# Altium footprint library ee_453_Schulz.PcbLib: 73 footprints (part 2 of 5)
Each footprint in its own frame and in the unit in brackets; x right, y up, seen from the top. Pads: shape width x height; smd on the part's side, far side on the other; paste and mask are expansions set on the pad; w line width, h text height; cw(c..) or ccw(c..) is an arc to the next point about the centre after c.
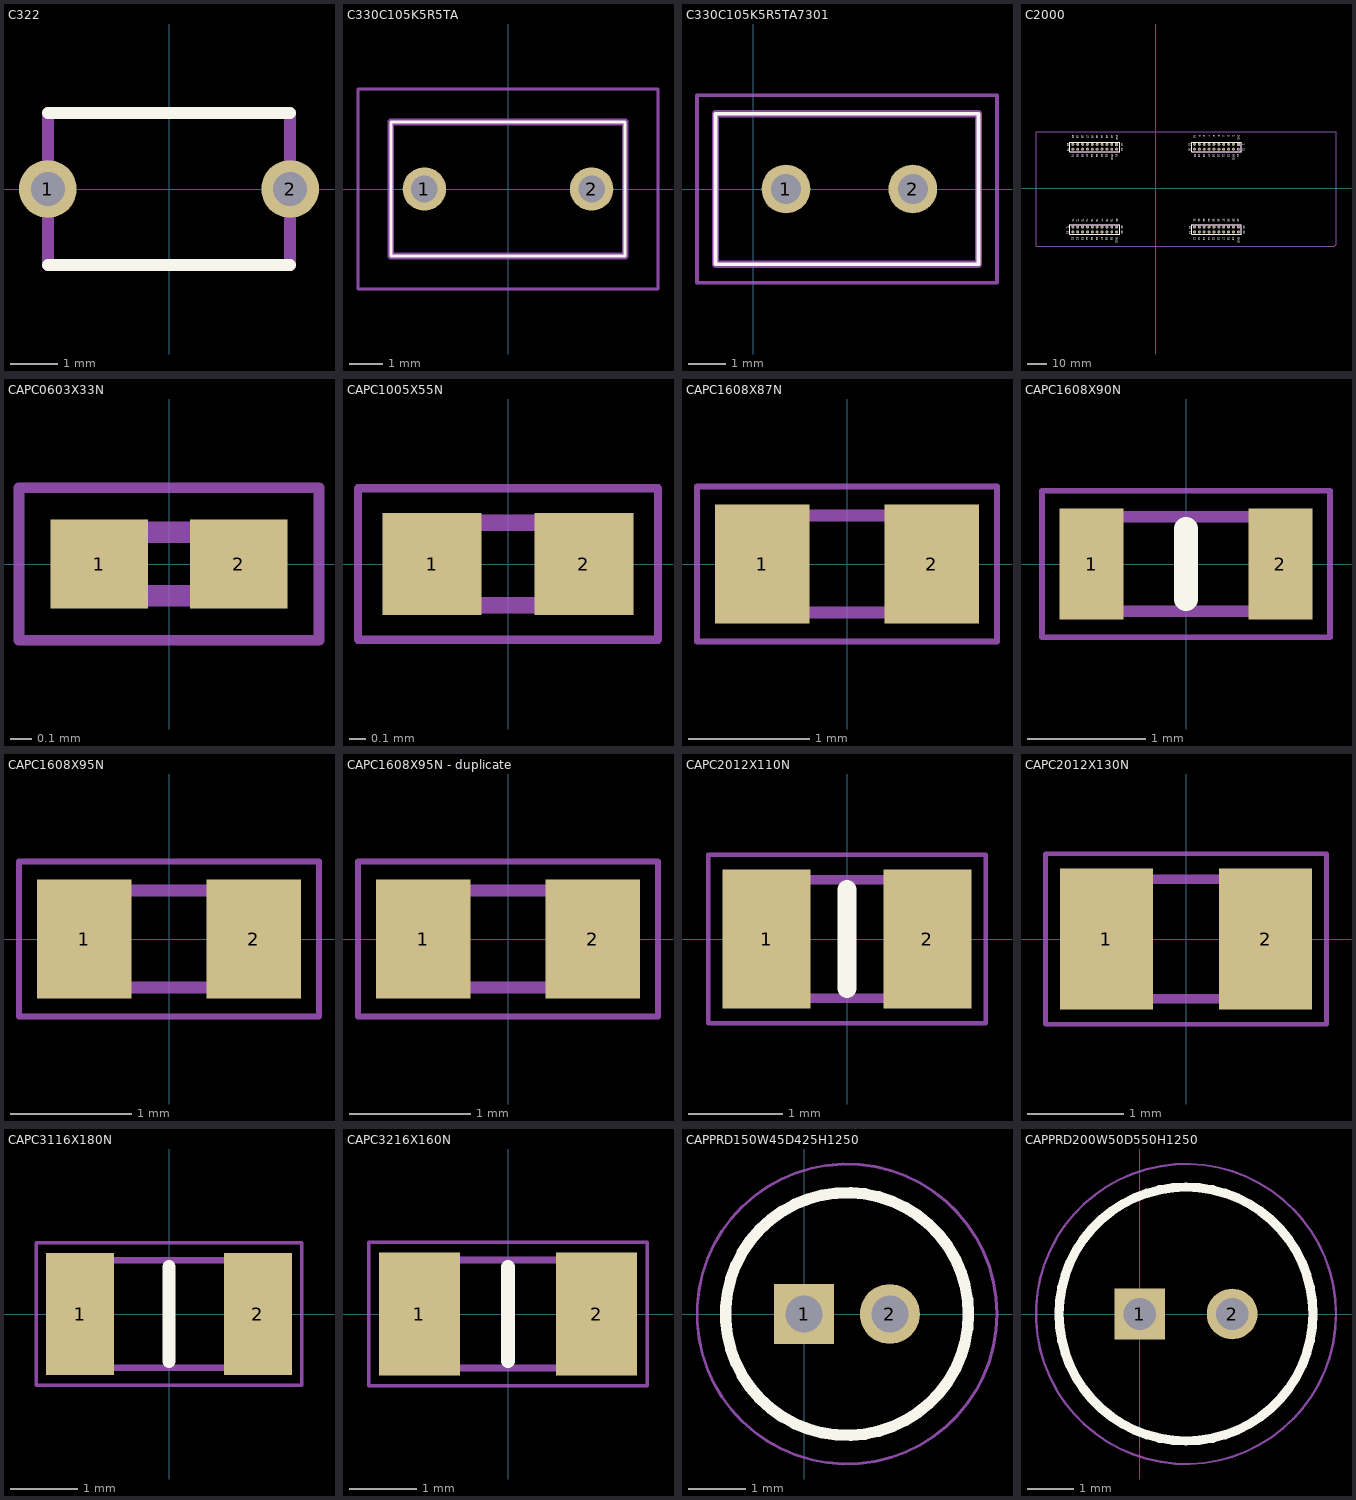
[diagram p1: the footprints below, top view; thin cyan lines are the x and y axes]

## C322 [mm]
pads (2):
  round 1.21 hole 0.71: 1(-2.54,0) 2(2.54,0)
Top Overlay:
  lines w0.254: -2.54,-1.59 2.54,-1.59 ; -2.54,1.59 2.54,1.59
Mechanical 13:
  lines w0.254: -2.54,-1.59 2.54,-1.59 2.54,1.59 -2.54,1.59 -2.54,-1.59
3D body "C322C104K5R5TA.stp": height 3.18, standoff 0, extent -0.695,-8.79 5.775,4.811

## C330C105K5R5TA [mm]
pads (2):
  round 1.316 hole 0.81: 1(-2.54,0) 2(2.54,0)
Top Overlay:
  lines w0.1: -3.555,-2.035 -3.555,2.035 3.555,2.035 3.555,-2.035 -3.555,-2.035
Mechanical 13:
  lines w0.2: -3.555,-2.035 -3.555,2.035 3.555,2.035 3.555,-2.035 -3.555,-2.035
Mechanical 15:
  lines w0.1: -4.555,-3.035 -4.555,3.035 4.555,3.035 4.555,-3.035 -4.555,-3.035
3D body "C330C105K5R5TA.stp": height 9.1, standoff -5, extent -3.555,-2.035 3.555,2.035

## C330C105K5R5TA7301 [mm]
pads (2):
  round 1.316 hole 0.81: 1(0.889,0) 2(4.318,0)
Top Overlay:
  lines w0.1: -1.015,-2.035 -1.015,2.035 6.095,2.035 6.095,-2.035 -1.015,-2.035
Mechanical 13:
  lines w0.2: -1.015,-2.035 -1.015,2.035 6.095,2.035 6.095,-2.035 -1.015,-2.035
Mechanical 15:
  lines w0.1: -1.515,-2.535 -1.515,2.535 6.595,2.535 6.595,-2.535 -1.515,-2.535
3D body "C330C105K5R5TA7301.stp": height 10.66, standoff -7, extent -1.015,-2.035 6.095,2.04

## C2000 [mm]
pads (80):
  rrect6% 1.55x1.55 hole 1.02: 1(43.18,22.86) 41(-20.32,22.86)
  round 1.55 hole 1.02: 2(40.64,22.86) 3(38.1,22.86) 4(35.56,22.86) 5(33.02,22.86) 6(30.48,22.86) 7(27.94,22.86) 8(25.4,22.86) 9(22.86,22.86) 10(20.32,22.86) 11(20.32,-22.86) 12(22.86,-22.86) 13(25.4,-22.86) 14(27.94,-22.86) 15(30.48,-22.86) 16(33.02,-22.86) 17(35.56,-22.86) 18(38.1,-22.86) 19(40.64,-22.86) 20(43.18,-22.86) 21(43.18,20.32) 22(40.64,20.32) 23(38.1,20.32) 24(35.56,20.32) 25(33.02,20.32) 26(30.48,20.32) 27(27.94,20.32) 28(25.4,20.32) 29(22.86,20.32) 30(20.32,20.32) 31(20.32,-20.32) 32(22.86,-20.32) 33(25.4,-20.32) 34(27.94,-20.32) 35(30.48,-20.32) 36(33.02,-20.32) 37(35.56,-20.32) 38(38.1,-20.32) 39(40.64,-20.32) 40(43.18,-20.32) 42(-22.86,22.86) 43(-25.4,22.86) 44(-27.94,22.86) 45(-30.48,22.86) 46(-33.02,22.86) 47(-35.56,22.86) 48(-38.1,22.86) 49(-40.64,22.86) 50(-43.18,22.86) 51(-43.18,-22.86) 52(-40.64,-22.86) 53(-38.1,-22.86) 54(-35.56,-22.86) 55(-33.02,-22.86) 56(-30.48,-22.86) 57(-27.94,-22.86) 58(-25.4,-22.86) 59(-22.86,-22.86) 60(-20.32,-22.86) 61(-20.32,20.32) 62(-22.86,20.32) 63(-25.4,20.32) 64(-27.94,20.32) 65(-30.48,20.32) 66(-33.02,20.32) 67(-35.56,20.32) 68(-38.1,20.32) 69(-40.64,20.32) 70(-43.18,20.32) 71(-43.18,-20.32) 72(-40.64,-20.32) 73(-38.1,-20.32) 74(-35.56,-20.32) 75(-33.02,-20.32) 76(-30.48,-20.32) 77(-27.94,-20.32) 78(-25.4,-20.32) 79(-22.86,-20.32) 80(-20.32,-20.32)
Top Overlay:
  lines w0.2: -44.704,-24.066 -44.704,-19.113 -18.796,-19.113 -18.796,-24.066 -44.704,-24.066 ; -44.704,19.113 -44.704,24.067 -18.796,24.067 -18.796,19.113 -44.704,19.113 ; 18.796,-24.066 18.796,-19.113 44.704,-19.113 44.704,-24.066 18.796,-24.066 ; 18.796,19.113 18.796,24.067 44.704,24.067 44.704,19.113 18.796,19.113
  text "78" at -25.815,-15.998 h0.76
  text "79" at -23.275,-15.998 h0.76
  text "39" at 40.259,-15.998 h0.76
  text "38" at 37.719,-15.998 h0.76
  text "27" at 27.432,17.566 h0.76
  text "19" at 40.132,-25.734 h0.76
  text "59" at -23.368,-25.734 h0.76
  text "11" at 19.812,-25.734 h0.76
  text "12" at 22.352,-25.734 h0.76
  text "13" at 24.892,-25.734 h0.76
  text "15" at 29.972,-25.734 h0.76
  text "16" at 32.512,-25.734 h0.76
  text "17" at 35.052,-25.734 h0.76
  text "18" at 37.592,-25.734 h0.76
  text "31" at 19.812,-15.998 h0.76
  text "32" at 22.352,-15.998 h0.76
  text "33" at 24.892,-15.998 h0.76
  text "34" at 27.432,-15.998 h0.76
  text "35" at 29.972,-15.998 h0.76
  text "36" at 32.512,-15.998 h0.76
  text "37" at 35.052,-15.998 h0.76
  text "14" at 27.432,-25.734 h0.76
  text "51" at -43.688,-25.734 h0.76
  text "52" at -41.148,-25.734 h0.76
  text "53" at -38.608,-25.734 h0.76
  text "55" at -33.528,-25.734 h0.76
  text "56" at -30.988,-25.734 h0.76
  text "57" at -28.448,-25.734 h0.76
  text "58" at -25.908,-25.734 h0.76
  text "80" at -20.608,-15.998 h0.76
  text "72" at -41.055,-15.998 h0.76
  text "73" at -38.515,-15.998 h0.76
  text "74" at -36.068,-15.998 h0.76
  text "75" at -33.528,-15.998 h0.76
  text "76" at -30.895,-15.998 h0.76
  text "77" at -28.355,-15.998 h0.76
  text "54" at -36.068,-25.734 h0.76
  text "67" at -36.068,17.566 h0.76
  text "42" at -23.241,27.558 h0.76
  text "43" at -25.781,27.558 h0.76
  text "44" at -28.321,27.558 h0.76
  text "45" at -30.861,27.558 h0.76
  text "46" at -33.401,27.558 h0.76
  text "47" at -35.941,27.558 h0.76
  text "48" at -38.481,27.558 h0.76
  text "49" at -41.021,27.558 h0.76
  text "50" at -43.561,27.558 h0.76
  text "63" at -25.908,17.566 h0.76
  text "64" at -28.448,17.566 h0.76
  text "65" at -30.988,17.566 h0.76
  text "66" at -33.528,17.566 h0.76
  text "68" at -38.608,17.566 h0.76
  text "69" at -41.148,17.566 h0.76
  text "70" at -43.688,17.566 h0.76
  text "30" at 20.066,17.566 h0.76
  text "29" at 22.352,17.566 h0.76
  text "28" at 24.892,17.566 h0.76
  text "26" at 29.972,17.566 h0.76
  text "25" at 32.512,17.566 h0.76
  text "24" at 35.052,17.566 h0.76
  text "23" at 37.592,17.566 h0.76
  text "10" at 19.939,27.558 h0.76
  text "9" at 22.479,27.558 h0.76
  text "8" at 25.019,27.558 h0.76
  text "7" at 27.559,27.558 h0.76
  text "6" at 30.099,27.558 h0.76
  text "5" at 32.639,27.558 h0.76
  text "4" at 35.179,27.558 h0.76
  text "3" at 37.719,27.558 h0.76
  text "2" at 40.259,27.558 h0.76
  text "41" at -17.78,23.495 h0.76
  text "61" at -17.78,20.828 h0.76
  text "50" at -45.974,23.419 h0.76
  text "70" at -45.974,20.955 h0.76
  text "60" at -17.78,-22.225 h0.76
  text "80" at -17.78,-19.685 h0.76
  text "71" at -43.434,-15.998 h0.76
  text "10" at 17.399,23.419 h0.76
  text "1" at 45.593,23.114 h0.76
  text "30" at 17.399,20.955 h0.76
  text "21" at 45.593,20.955 h0.76
  text "20" at 45.798,-22.225 h0.76
  text "11" at 17.526,-22.428 h0.76
  text "31" at 17.526,-19.812 h0.76
  text "40" at 45.798,-19.685 h0.76
  text "GND" at 42.799,-25.734 h0.76
  text "GND" at 40.296,17.566 h0.76
  text "5V" at 42.75,17.566 h0.76
  text "3V3" at 43.004,27.558 h0.76
  text "5V" at -20.75,17.566 h0.76
  text "GND" at -23.204,17.566 h0.76
  text "3V3" at -20.623,27.558 h0.76
  text "GND" at -20.701,-25.734 h0.76
  text "40" at 42.672,-15.998 h0.76
  text "71" at -46.394,-19.752 h0.76
  text "51" at -46.355,-22.559 h0.76
Bottom Overlay:
  lines w0.2: -44.704,-24.067 -18.796,-24.067 -18.796,-19.113 -44.704,-19.113 -44.704,-24.067 ; -44.704,19.113 -18.796,19.113 -18.796,24.066 -44.704,24.066 -44.704,19.113 ; 18.796,-24.067 44.704,-24.067 44.704,-19.113 18.796,-19.113 18.796,-24.067 ; 18.796,19.113 18.796,24.066 44.704,24.066 44.704,19.113 18.796,19.113
  text "AB2/G1I" at 27.686,13.677 h0.64
  text "AC0/G3I" at 25.019,13.571 h0.64
  text "AA9/G5I" at 22.606,13.571 h0.64
  text "AA1/DACB" at 18.542,12.954 h0.76
  text "AA8/G6O" at -38.481,24.875 h0.64
  text "AA4/G2O" at -33.401,24.875 h0.64
  text "AB4/G4O" at -30.734,24.875 h0.64
  text "AC4" at 25.019,25.526 h0.76
  text "AB3" at 30.099,25.526 h0.76
  text "NC" at 32.639,26.288 h0.76
  text "AA5" at 37.592,15.535 h0.76
  text "AB0" at 35.052,15.535 h0.76
  text "AC2" at 32.512,15.535 h0.76
  text "AB1" at 29.972,15.789 h0.76
  text "PGAGND" at 40.132,24.765 h0.76
  text "P13" at 37.719,25.653 h0.76
  text "P40" at 35.179,25.526 h0.76
  text "P56" at 27.559,25.526 h0.76
  text "P37" at 22.479,25.526 h0.76
  text "P35" at 19.939,25.526 h0.76
  text "NC" at -43.561,26.288 h0.76
  text "NC" at -41.021,26.288 h0.76
  text "P22" at -35.941,25.526 h0.76
  text "P29" at -28.321,25.526 h0.76
  text "P28" at -25.781,25.526 h0.76
  text "PGAGND" at -23.368,24.765 h0.76
  text "AA0/DACA" at -44.958,11.726 h0.76
  text "AC1" at -33.528,15.789 h0.76
  text "AA6" at -25.908,15.535 h0.76
  text "P27" at -23.368,-27.765 h0.76
  text "NC" at -25.908,-27.003 h0.76
  text "NC" at -28.448,-27.003 h0.76
  text "XRSn" at -30.988,-27.765 h0.76
  text "P24" at -33.528,-27.765 h0.76
  text "P31" at -36.068,-27.765 h0.76
  text "P33" at -38.608,-27.765 h0.76
  text "P34" at -41.148,-27.765 h0.76
  text "P12" at -43.688,-27.765 h0.76
  text "P00" at -20.608,-18.03 h0.76
  text "P01" at -23.275,-17.776 h0.76
  text "P06" at -25.815,-18.03 h0.76
  text "P07" at -28.482,-18.03 h0.76
  text "P02" at -30.895,-18.03 h0.76
  text "P03" at -33.435,-18.03 h0.76
  text "P26" at -35.975,-18.03 h0.76
  text "P15" at -38.515,-17.903 h0.76
  text "P14" at -41.055,-17.903 h0.76
  text "P25" at 19.812,-18.03 h0.76
  text "P18" at 22.352,-17.903 h0.76
  text "P30" at 24.892,-18.03 h0.76
  text "P58" at 27.432,-18.03 h0.76
  text "P05" at 29.972,-18.03 h0.76
  text "P04" at 32.512,-18.03 h0.76
  text "P09" at 35.052,-18.03 h0.76
  text "P08" at 37.719,-18.03 h0.76
  text "P11" at 40.259,-17.649 h0.76
  text "P10" at 42.672,-17.903 h0.76
  text "P59" at 19.812,-27.765 h0.76
  text "P23" at 22.352,-27.765 h0.76
  text "P39" at 24.892,-27.765 h0.76
  text "P17" at 27.432,-27.765 h0.76
  text "P16" at 29.972,-27.765 h0.76
  text "XRSn" at 32.512,-27.765 h0.76
  text "NC" at 35.052,-27.003 h0.76
  text "NC" at 37.719,-27.003 h0.76
  text "P57" at 40.132,-27.765 h0.76
  text "60" at -17.78,-23.622 h0.76
  text "80" at -17.78,-20.828 h0.76
  text "71" at -43.434,-17.014 h0.76
  text "41" at -17.78,22.098 h0.76
  text "61" at -17.78,19.812 h0.76
  text "50" at -45.974,22.352 h0.76
  text "70" at -45.974,19.812 h0.76
  text "31" at 17.526,-20.828 h0.76
  text "11" at 17.526,-23.368 h0.76
  text "40" at 45.798,-21.082 h0.76
  text "20" at 45.798,-23.495 h0.76
  text "30" at 17.399,19.558 h0.76
  text "10" at 17.399,22.352 h0.76
  text "21" at 45.593,19.939 h0.76
  text "1" at 45.593,22.733 h0.76
  text "GND" at -23.241,15.535 h0.76
  text "5V" at -20.75,16.296 h0.76
  text "3V3" at -20.574,25.526 h0.76
  text "GND" at 40.259,15.535 h0.76
  text "5V" at 42.75,16.296 h0.76
  text "3V3" at 42.926,25.526 h0.76
  text "GND" at 42.877,-27.765 h0.76
  text "GND" at -20.75,-27.765 h0.76
  text "71" at -46.394,-20.767 h0.76
  text "P12" at -46.355,-24.59 h0.76
Mechanical 6:
  lines w0.1: -44.704,-24.066 -18.796,-24.066 -18.796,-19.113 -44.704,-19.113 -44.704,-24.066 ; -44.704,19.113 -18.796,19.113 -18.796,24.067 -44.704,24.067 -44.704,19.113 ; 18.796,-24.066 18.796,-19.113 44.704,-19.113 44.704,-24.066 18.796,-24.066 ; 18.796,19.113 44.704,19.113 44.704,24.067 18.796,24.067 18.796,19.113
Mechanical - C2000 Outline (Mech16):
  lines w0.025: -62.406,-30.226 93.296,-30.226 94.185,-29.337 94.185,29.337 -62.279,29.337 -62.406,29.21 -62.406,-30.226
3D body "SSQ-110-03-T-D.stp": height 8.51, standoff -10.01, extent 18.796,-24.067 44.704,-19.114
3D body "SSQ-110-03-T-D.stp": height 8.51, standoff -10.01, extent 18.796,19.113 44.704,24.066
3D body "SSQ-110-03-T-D.stp": height 8.51, standoff -10.01, extent -44.704,-24.067 -18.796,-19.114
3D body "SSQ-110-03-T-D.stp": height 8.51, standoff -10.01, extent -44.704,19.113 -18.796,24.066

## CAPC0603X33N [mm]
pads (2):
  rect 0.46x0.42 smd: 1(-0.33,0) 2(0.33,0)
Mechanical 13:
  lines w0.1: -0.3,-0.15 -0.3,0.15 0.3,0.15 0.3,-0.15 -0.3,-0.15
Mechanical 15:
  lines w0.05: -0.71,-0.36 -0.71,0.36 0.71,0.36 0.71,-0.36 -0.71,-0.36
3D body "GRM033R71A103KA01D.stp": height 0.33, standoff 0, extent -0.3,-0.15 0.3,0.15

## CAPC1005X55N [mm]
pads (2):
  rect 0.6x0.62 smd: 1(-0.46,0) 2(0.46,0)
Mechanical 13:
  lines w0.1: -0.5,-0.25 0.5,-0.25 0.5,0.25 -0.5,0.25 -0.5,-0.25
Mechanical 15:
  lines w0.05: -0.91,-0.46 0.91,-0.46 0.91,0.46 -0.91,0.46 -0.91,-0.46
3D body "CC0402KRX7R6BB104.stp": height 0.55, standoff 0, extent -0.5,-0.25 0.5,0.25

## CAPC1608X87N [mm]
pads (2):
  rect 0.78x0.98 smd: 1(-0.7,0) 2(0.7,0)
Mechanical 13:
  lines w0.1: -0.8,-0.4 -0.8,0.4 0.8,0.4 0.8,-0.4 -0.8,-0.4
Mechanical 15:
  lines w0.05: -1.24,-0.64 -1.24,0.64 1.24,0.64 1.24,-0.64 -1.24,-0.64
3D body "C0603C105K8RACTU.stp": height 0.87, standoff 0, extent -0.8,-0.4 0.8,0.4

## CAPC1608X90N [mm]
pads (2):
  rect 0.54x0.94 smd: 1(-0.8,0) 2(0.8,0)
Top Overlay:
  lines w0.2: 0,-0.3 0,0.3
Mechanical 13:
  lines w0.1: -0.8,-0.4 0.8,-0.4 0.8,0.4 -0.8,0.4 -0.8,-0.4
Mechanical 15:
  lines w0.05: -1.22,-0.62 1.22,-0.62 1.22,0.62 -1.22,0.62 -1.22,-0.62
3D body "CGA3E1X7R1V105K080AC.stp": height 0.9, standoff 0, extent -0.8,-0.4 0.8,0.4

## CAPC1608X95N [mm]
pads (2):
  rect 0.78x0.98 smd: 1(-0.7,0) 2(0.7,0)
Mechanical 13:
  lines w0.1: -0.8,-0.4 -0.8,0.4 0.8,0.4 0.8,-0.4 -0.8,-0.4
Mechanical 15:
  lines w0.05: -1.24,-0.64 -1.24,0.64 1.24,0.64 1.24,-0.64 -1.24,-0.64
3D body "C0603C104K5RAC3121.stp": height 0.95, standoff 0, extent -0.8,-0.4 0.8,0.4

## CAPC1608X95N - duplicate [mm]
pads (2):
  rect 0.78x0.98 smd: 1(-0.7,0) 2(0.7,0)
Mechanical 13:
  lines w0.1: -0.8,-0.4 0.8,-0.4 0.8,0.4 -0.8,0.4 -0.8,-0.4
Mechanical 15:
  lines w0.05: -1.24,-0.64 1.24,-0.64 1.24,0.64 -1.24,0.64 -1.24,-0.64
3D body "C0603C104K5RAC3121.stp": height 0.95, standoff 0, extent -0.8,-0.4 0.8,0.4

## CAPC2012X110N [mm]
pads (2):
  rect 0.93x1.47 smd: 1(-0.85,0) 2(0.85,0)
Top Overlay:
  lines w0.2: 0,-0.525 0,0.525
Mechanical 13:
  lines w0.1: -1,-0.625 1,-0.625 1,0.625 -1,0.625 -1,-0.625
Mechanical 15:
  lines w0.05: -1.465,-0.89 1.465,-0.89 1.465,0.89 -1.465,0.89 -1.465,-0.89
3D body "ECP-U1C104MA5.stp": height 1.1, standoff 0, extent -1,-0.625 1,0.625

## CAPC2012X130N [mm]
pads (2):
  rect 0.97x1.47 smd: 1(-0.83,0) 2(0.83,0)
Mechanical 13:
  lines w0.1: -1,-0.625 1,-0.625 1,0.625 -1,0.625 -1,-0.625
Mechanical 15:
  lines w0.05: -1.465,-0.89 1.465,-0.89 1.465,0.89 -1.465,0.89 -1.465,-0.89
3D body "ECH-U1C103GX5.stp": height 1.3, standoff 0, extent -1,-0.625 1,0.625

## CAPC3116X180N [mm]
pads (2):
  rect 1.01x1.82 smd: 1(-1.32,0) 2(1.32,0)
Top Overlay:
  lines w0.2: 0,-0.7 0,0.7
Mechanical 13:
  lines w0.1: -1.55,-0.8 1.55,-0.8 1.55,0.8 -1.55,0.8 -1.55,-0.8
Mechanical 15:
  lines w0.05: -1.975,-1.06 1.975,-1.06 1.975,1.06 -1.975,1.06 -1.975,-1.06
3D body "GCM31CR71A226KE02L.stp": height 1.8, standoff 0, extent -1.55,-0.8 1.55,0.8

## CAPC3216X160N [mm]
pads (2):
  rect 1.2x1.82 smd: 1(-1.31,0) 2(1.31,0)
Top Overlay:
  lines w0.2: 0,-0.7 0,0.7
Mechanical 13:
  lines w0.1: -1.6,-0.8 1.6,-0.8 1.6,0.8 -1.6,0.8 -1.6,-0.8
Mechanical 15:
  lines w0.05: -2.06,-1.06 2.06,-1.06 2.06,1.06 -2.06,1.06 -2.06,-1.06
3D body "FCA1206A105M-H3.stp": height 1.6, standoff 0, extent -1.6,-0.8 1.6,0.8

## CAPPRD150W45D425H1250 [mm]
pads (2):
  rect 1.05x1.05 hole 0.65: 1(0,0)
  round 1.05 hole 0.65: 2(1.5,0)
Top Overlay:
  circle w0.2: c0.75,0 r2.125
Mechanical 13:
  circle w0.1: c0.75,0 r2.125
Mechanical 15:
  circle w0.05: c0.75,0 r2.625
3D body "UPW1J6R8MDD6.stp": height 12.5, standoff -10, extent -1.5,-2.247 3,2.247

## CAPPRD200W50D550H1250 [mm]
pads (2):
  rect 1.1x1.1 hole 0.7: 1(0,0)
  round 1.1 hole 0.7: 2(2,0)
Top Overlay:
  circle w0.2: c1,0 r2.75
Mechanical 13:
  circle w0.1: c1,0 r2.75
Mechanical 15:
  circle w0.05: c1,0 r3.25
3D body "UPW1E220MDD.stp": height 12.5, standoff -10, extent -1.75,-2.75 3.75,2.75